# Altium footprint library Molex.PcbLib: 5 footprints
Each footprint in its own frame and in the unit in brackets; x right, y up, seen from the top. Pads: shape width x height; smd on the part's side, far side on the other; paste and mask are expansions set on the pad; w line width, h text height; cw(c..) or ccw(c..) is an arc to the next point about the centre after c.
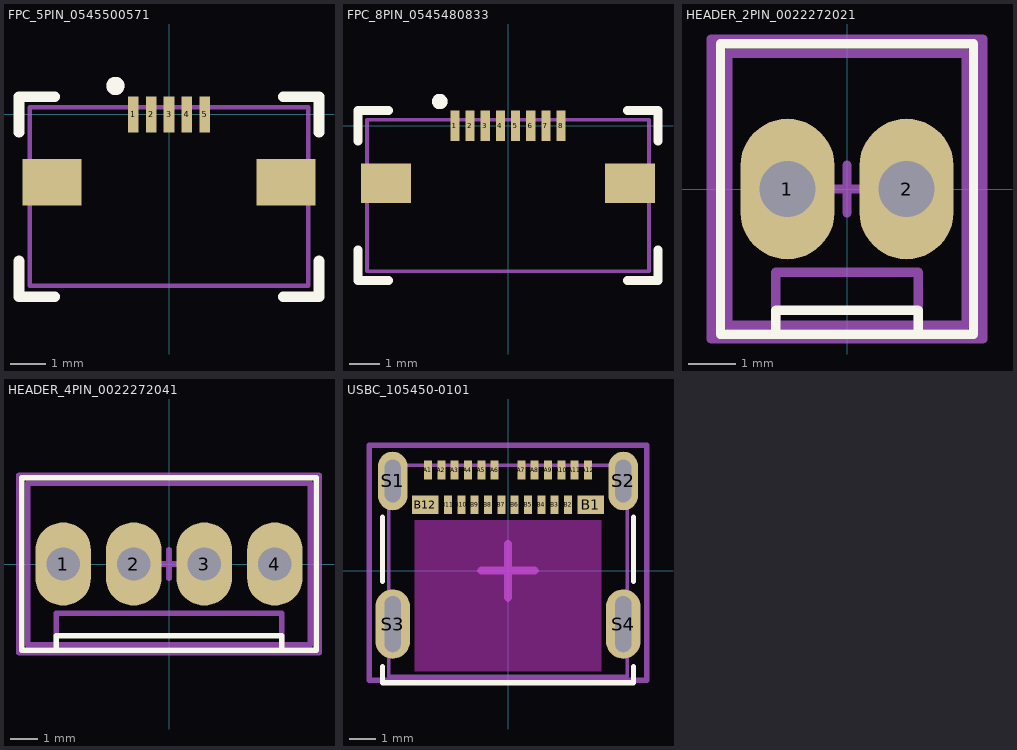
[diagram p0: the footprints below, top view; thin cyan lines are the x and y axes]

## FPC_5PIN_0545500571 [mm]
pads (7):
  rect 0.3x1 smd paste-0.06 mask+0.07: 1(-1,0) 2(-0.5,0) 3(0,0) 4(0.5,0) 5(1,0)
  rect 1.65x1.3 smd paste-0.2 mask+0: ""(-3.275,-1.9) ""(3.275,-1.9)
Top Overlay:
  circle w0.254: c-1.5,0.8 r0.127
  lines w0.3: -4.2,-4.1 -4.2,-5.1 -3.2,-5.1 ; -4.2,-0.5 -4.2,0.5 -3.2,0.5 ; 3.2,-5.1 4.2,-5.1 4.2,-4.1 ; 3.2,0.5 4.2,0.5 4.2,-0.5
Top M13/M14 3D Body:
  circle w0.254: c-1.5,0.8 r0.127
  lines w0.127: -3.9,-4.8 3.9,-4.8 3.9,0.2 -3.9,0.2 -3.9,-4.8
3D body "Molex_0545500571.stp": height 1.2, standoff 0, extent -3.85,-4.804 3.85,0.196

## FPC_8PIN_0545480833 [mm]
pads (10):
  rect 0.3x1 smd paste-0.06 mask+0.07: 1(-1.75,0) 2(-1.25,0) 3(-0.75,0) 4(-0.25,0) 5(0.25,0) 6(0.75,0) 7(1.25,0) 8(1.75,0)
  rect 1.65x1.3 smd paste-0.2 mask+0: ""(-4.025,-1.9) ""(4.025,-1.9)
Top Overlay:
  circle w0.254: c-2.25,0.8 r0.127
  lines w0.3: -4.95,-4.1 -4.95,-5.1 -3.95,-5.1 ; -4.95,-0.5 -4.95,0.5 -3.95,0.5 ; 3.95,-5.1 4.95,-5.1 4.95,-4.1 ; 3.95,0.5 4.95,0.5 4.95,-0.5
Top M13/M14 3D Body:
  circle w0.254: c-2.25,0.8 r0.127
  circle w0.254: c-2.25,0.8 r0.127
  lines w0.127: -4.65,-4.8 -4.65,0.2 4.65,0.2 4.65,-4.8 -4.65,-4.8
3D body "Molex_0545480833.stp": height 1.18, standoff -0.02, extent -4.6,-4.85 4.6,0.15

## HEADER_2PIN_0022272021 [mm]
height 11.6
pads (2):
  oval 2x3 hole 1.2: 1(-1.27,0) 2(1.27,0)
Top Overlay:
  lines w0.2: -1.524,-3.094 -1.524,-2.586 1.524,-2.586 1.524,-3.094 ; -2.7,-3.1 -2.7,3.1 2.7,3.1 2.7,-3.1 -2.7,-3.1
Top M13/M14 3D Body:
  lines w0.2: -1.524,-2.9 -1.524,-1.778 1.524,-1.778 1.524,-2.9 ; -2.54,-2.9 -2.54,2.9 2.54,2.9 2.54,-2.9 -2.54,-2.9
Top M15/M16 Assembly:
  lines w0.2: -0.508,0 0.508,0 ; 0,-0.508 0,0.508 ; -2.9,-3.2 2.9,-3.2 2.9,3.2 -2.9,3.2 -2.9,-3.2
3D body "MOLEX KK 022272021.STEP": height 11.7, standoff -3.56, extent -2.54,-2.9 2.54,2.9

## HEADER_4PIN_0022272041 [mm]
height 11.6
pads (4):
  oval 2x3 hole 1.2: 1(-3.81,0) 2(-1.27,0) 3(1.27,0) 4(3.81,0)
Top Overlay:
  lines w0.2: -4.064,-3.094 -4.064,-2.586 4.064,-2.586 4.064,-3.094 ; -5.3,-3.1 5.3,-3.1 5.3,3.1 -5.3,3.1 -5.3,-3.1
Top M13/M14 3D Body:
  lines w0.2: -4.064,-2.9 -4.064,-1.778 4.064,-1.778 4.064,-2.9 ; -5.08,-2.9 -5.08,2.9 5.08,2.9 5.08,-2.9 -5.08,-2.9
Top M15/M16 Assembly:
  lines w0.2: -0.508,0 0.508,0 ; 0,-0.508 0,0.508 ; -5.4,-3.2 -5.4,3.2 5.4,3.2 5.4,-3.2 -5.4,-3.2
3D body "MOLEX KK 022272041.STEP": height 11.7, standoff -3.56, extent -5.08,-2.9 5.08,2.9

## USBC_105450-0101 [mm] "USB-C MOLEX 105450-0101"
height 11.6
pads (28):
  rect 0.3x0.7 smd: A1(-3,3.77) A2(-2.5,3.77) A3(-2,3.77) A4(-1.5,3.77) A5(-1,3.77) A6(-0.5,3.77) A7(0.5,3.77) A8(1,3.77) A9(1.5,3.77) A10(2,3.77) A11(2.5,3.77) A12(3,3.77) B2(2.25,2.47) B3(1.75,2.47) B4(1.25,2.47) B5(0.75,2.47) B6(0.25,2.47) B7(-0.25,2.47) B8(-0.75,2.47) B9(-1.25,2.47) B10(-1.75,2.47) B11(-2.25,2.47)
  rect 1x0.7 smd: B1(3.1,2.47) B12(-3.1,2.47)
  oval 1.1x2.2 hole 0.6 slot 1.6 at 90 deg: S1(-4.32,3.36) S2(4.32,3.36)
  oval 1.3x2.6 hole 0.6 slot 2.1 at 90 deg: S3(-4.32,-2) S4(4.32,-2)
Top Overlay:
  lines w0.2: -4.7,-3.6 -4.7,-4.2 4.7,-4.2 4.7,-3.6 ; -4.7,-0.4 -4.7,2 ; 4.7,-0.4 4.7,2
Keep-Out Layer:
  region: 3.5,-3.773 -3.502,-3.773 -3.502,1.88 3.5,1.88
  region: 3.5,-3.771 -3.501,-3.771 -3.501,1.88 3.5,1.88
Top M13/M14 3D Body:
  lines w0.127: -4.47,-3.95 -4.47,3.95 4.47,3.95 4.47,-3.95 -4.47,-3.95
Top M15/M16 Assembly:
  lines w0.2: -5.2,-4.1 -5.2,4.7 5.2,4.7 5.2,-4.1 -5.2,-4.1
  lines w0.3: -1,0 1,0 ; 0,-1 0,1
3D body "Molex_105450-0101.STEP": height 3.2, standoff -0.9, extent -4.47,-3.905 4.47,3.995